# Altium schematic symbol library Logic_LevelTranslator.SchLib: 1 symbol
Pins are listed as number, name and electrical type; pins without a type are passive.

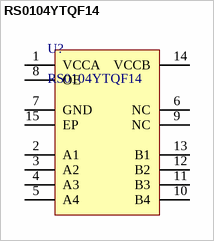
[diagram p0: symbol RS0104YTQF14]

## RS0104YTQF14
designator U?
4-Bit Bidirectional Voltage-Level Translator
footprint QFN-14-1EP_3.5x3.5mm_P0.5mm_EP2x2mm(for RS0104)
pins: 1 VCCA, 2 A1, 3 A2, 4 A3, 5 A4, 6 NC, 7 GND, 8 OE, 9 NC, 10 B4, 11 B3, 12 B2, 13 B1, 14 VCCB, 15 EP